# EAGLE library part UBLOX_MAX-M8Q (library Eric Navarrete Custom Parts Feb 2019)
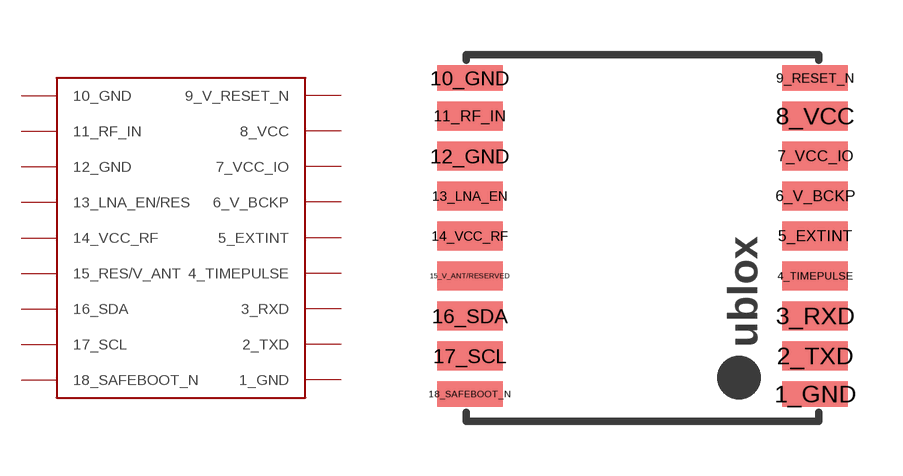
[diagram p2: symbol with the pads of UBLOX_MAX-M8Q; footprint UBLOX_MAX-M8Q]

Designator prefix U

## UBLOX_MAX-M8Q  [UBLOX_MAX-M8Q]
1_GND  1_GND  pwr
2_TXD  2_TXD
3_RXD  3_RXD
4_TIMEPULSE  4_TIMEPULSE
5_EXTINT  5_EXTINT
6_V_BCKP  6_V_BCKP
7_VCC_IO  7_VCC_IO  pwr
8_VCC  8_VCC  pwr
9_RESET_N  9_V_RESET_N  pwr
10_GND  10_GND  pwr
11_RF_IN  11_RF_IN
12_GND  12_GND  pwr
13_LNA_EN  13_LNA_EN/RES
14_VCC_RF  14_VCC_RF
15_V_ANT/RESERVED  15_RES/V_ANT
16_SDA  16_SDA
17_SCL  17_SCL
18_SAFEBOOT_N  18_SAFEBOOT_N

## Footprint UBLOX_MAX-M8Q (pad centres in mm)
smd 1.8 x 0.7: 1_GND 4.95,-4.4; 9_RESET_N 4.95,4.3; 10_GND -4.55,4.3; 18_SAFEBOOT_N -4.55,-4.4
smd 1.8 x 0.8: 2_TXD 4.95,-3.35; 3_RXD 4.95,-2.25; 4_TIMEPULSE 4.95,-1.15; 5_EXTINT 4.95,-0.05; 6_V_BCKP 4.95,1.05; 7_VCC_IO 4.95,2.15; 8_VCC 4.95,3.25; 11_RF_IN -4.55,3.25; 12_GND -4.55,2.15; 13_LNA_EN -4.55,1.05; 14_VCC_RF -4.55,-0.05; 15_V_ANT/RESERVED -4.55,-1.15; 16_SDA -4.55,-2.25; 17_SCL -4.55,-3.35